# EAGLE library part INA3221 (library NaRRIK)
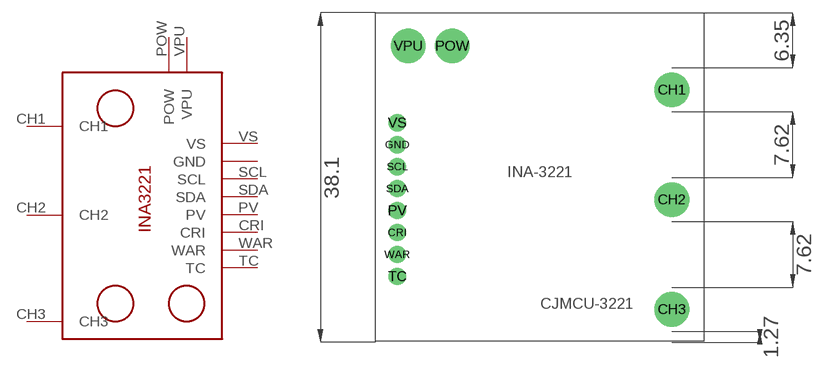
[diagram p4: symbol with the pads of INA3221; footprint INA3221]

Designator prefix -

## INA3221  [INA3221]
CH1  CH1  pwr
CH2  CH2  pwr
CH3  CH3  pwr
CRI  CRI
POW  POW  pwr
PV  PV
SCL  SCL
SDA  SDA
TC  TC
VPU  VPU  pwr
VS  VS
WAR  WAR

## Footprint INA3221 (pad centres in mm)
drill 2 pad 4: CH1 34.29,-8.89; CH2 34.29,-21.59; CH3 34.29,-34.29; POW 8.89,-3.81; VPU 3.81,-3.81
drill 0.9 pad 2: CRI 2.54,-25.4; GND 2.54,-15.24; PV 2.54,-22.86; SCL 2.54,-17.78; SDA 2.54,-20.32; TC 2.54,-30.48; VS 2.54,-12.7; WAR 2.54,-27.94